# EAGLE library part ADS1148QPWRQ1 (library ads11xx)
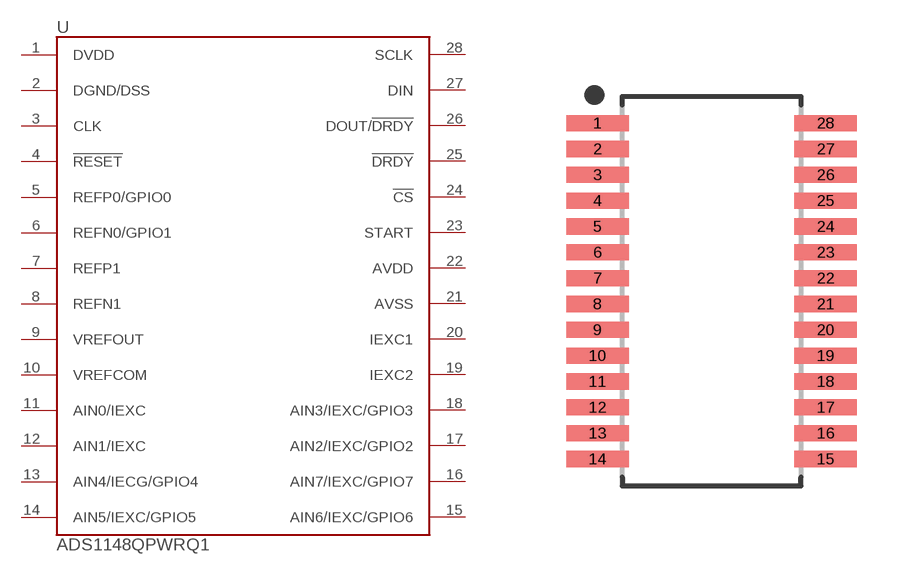
[diagram p0: symbol with the pads of TSSOP28; footprint TSSOP28]

Designator prefix -

## ADS1148QPWRQ1  [TSSOP28]
1  DVDD
2  DGND/DSS
3  CLK
4  !RESET
5  REFP0/GPIO0
6  REFN0/GPIO1
7  REFP1
8  REFN1
9  VREFOUT
10  VREFCOM
11  AIN0/IEXC
12  AIN1/IEXC
13  AIN4/IECG/GPIO4
14  AIN5/IEXC/GPIO5
15  AIN6/IEXC/GPIO6
16  AIN7/IEXC/GPIO7
17  AIN2/IEXC/GPIO2
18  AIN3/IEXC/GPIO3
19  IEXC2
20  IEXC1
21  AVSS
22  AVDD
23  START
24  !CS
25  !DRDY
26  DOUT/!DRDY
27  DIN
28  SCLK

## Footprint TSSOP28 (pad centres in mm)
28-SOP, 0.65 mm pitch, 6.40 mm span, 9.70 X 4.40 X 1.20 mm body 28-pin SOP package with 0.65 mm pitch, 6.40 mm span with body size 9.70 X 4.40 X 1.20 mm
smd 1.572 x 0.407: 1 -2.872,4.225; 2 -2.872,3.575; 3 -2.872,2.925; 4 -2.872,2.275; 5 -2.872,1.625; 6 -2.872,0.975; 7 -2.872,0.325; 8 -2.872,-0.325; 9 -2.872,-0.975; 10 -2.872,-1.625; 11 -2.872,-2.275; 12 -2.872,-2.925; 13 -2.872,-3.575; 14 -2.872,-4.225; 15 2.872,-4.225; 16 2.872,-3.575; 17 2.872,-2.925; 18 2.872,-2.275; 19 2.872,-1.625; 20 2.872,-0.975; 21 2.872,-0.325; 22 2.872,0.325; 23 2.872,0.975; 24 2.872,1.625; 25 2.872,2.275; 26 2.872,2.925; 27 2.872,3.575; 28 2.872,4.225